# Altium footprint library CONN_JACK_STEREO_3.5MM_SPDT_RA.PcbLib: 1 footprints
Each footprint in its own frame and in the unit in brackets; x right, y up, seen from the top. Pads: shape width x height; smd on the part's side, far side on the other; paste and mask are expansions set on the pad; w line width, h text height; cw(c..) or ccw(c..) is an arc to the next point about the centre after c.
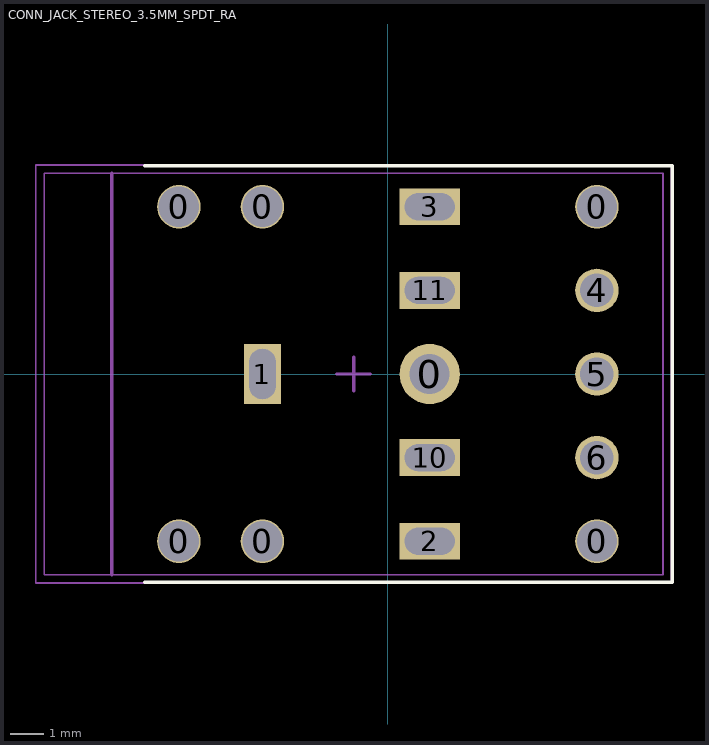
[diagram p0: the footprint, top view; thin cyan lines are the x and y axes]

## CONN_JACK_STEREO_3.5MM_SPDT_RA [mm]
pads (15):
  round 1.3 hole 1.2: 0(-6.25,-5) 0(-6.25,5) 0(-3.75,-5) 0(-3.75,5) 0(6.25,-5) 0(6.25,5)
  round 1.8 hole 1.2: 0(1.25,0)
  rect 1.1x1.8 hole 0.8 slot 1.5 at 90 deg: 1(-3.75,0)
  rect 1.8x1.1 hole 0.8 slot 1.5 at 0 deg: 2(1.25,-5) 3(1.25,5) 10(1.25,-2.5) 11(1.25,2.5)
  round 1.3 hole 1: 4(6.25,2.5) 5(6.25,0) 6(6.25,-2.5)
Top Overlay:
  lines w0.1: -7.276,-6.223 8.5,-6.223 8.5,6.223 -7.276,6.223
Mechanical 1:
  lines w0.1: -8.25,-6 -8.25,6
  text "PCB Edge" at -7.857,1.55 h0.76
Top Assembly:
  lines w0.05: -10.275,-6 8.225,-6 8.225,6 -10.275,6 -10.275,-6
  lines w0.1: -8.25,-6 -8.25,6
  text "PCB Edge" at -7.857,1.55 h0.76
  text ".DESIGNATOR" at -5.884,-2.575 h0.75
Top Courtyard:
  lines w0.05: -10.525,-6.25 8.475,-6.25 8.475,6.25 -10.525,6.25 -10.525,-6.25
  lines w0.1: -1.525,0 -0.525,0 ; -1.025,-0.5 -1.025,0.5
3D body "CONN_JACK_STEREO_3.5MM_SPDT_RA.step": height 5.51, standoff -3.29, extent -10.275,-6 8.225,6